# Altium integrated library RF Inductors-BPF_rev15a.intlib: 5 symbols
Pins are listed as number, name and electrical type; pins without a type are passive.

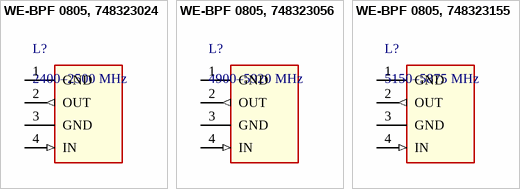
[diagram p0: symbols WE-BPF 0805, 748323024 to WE-BPF 0805, 748323155]

## WE-BPF 0805, 748323024
designator L?, comment 2400–2500 MHz
WE-BPF Multilayer Chip Band-Pass Filter, Frequence=2400–2500 MHz; partNo: 748323024; Manufacturer: Wurth Elektronik; Frequence: 2400–2500 MHz; ComponentLink1Description: Manufacturer; ComponentLink1URL: http://www.we-online.de; Created by: Baojun Chen; Created Date: Nov.2015; ComponentLink2Description: Datasheet; ComponentLink2URL: http://katalog.we-online.de/pbs/datasheet/748323024.pdf
footprint WE-BPF_0805
pins: 1 GND, 2 OUT (out), 3 GND, 4 IN (in)

## WE-BPF 0805, 748323056
designator L?, comment 4900–5920 MHz
WE-BPF Multilayer Chip Band-Pass Filter, Frequence=4900–5920 MHz; partNo: 748323056; Manufacturer: Wurth Elektronik; Frequence: 4900–5920 MHz; ComponentLink1Description: Manufacturer; ComponentLink1URL: http://www.we-online.de; Created by: Baojun Chen; Created Date: Nov.2015; ComponentLink2Description: Datasheet; ComponentLink2URL: http://katalog.we-online.de/pbs/datasheet/748323056.pdf
footprint WE-BPF_0805
pins: 1 GND, 2 OUT (out), 3 GND, 4 IN (in)

## WE-BPF 0805, 748323155
designator L?, comment 5150–5875 MHz
WE-BPF Multilayer Chip Band-Pass Filter, Frequence=5150–5875 MHz; partNo: 748323155; Manufacturer: Wurth Elektronik; Frequence: 5150–5875 MHz; ComponentLink1Description: Manufacturer; ComponentLink1URL: http://www.we-online.de; Created by: Baojun Chen; Created Date: Nov.2015; ComponentLink2Description: Datasheet; ComponentLink2URL: http://katalog.we-online.de/pbs/datasheet/748323155.pdf
footprint WE-BPF_0805
pins: 1 GND, 2 OUT (out), 3 GND, 4 IN (in)


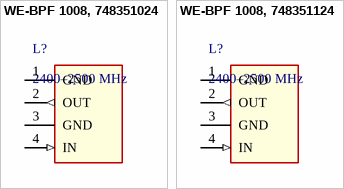
[diagram p1: symbols WE-BPF 1008, 748351024 to WE-BPF 1008, 748351124]

## WE-BPF 1008, 748351024
designator L?, comment 2400–2500 MHz
WE-BPF Multilayer Chip Band-Pass Filter, Frequence=2400–2500 MHz; partNo: 748351024; Manufacturer: Wurth Elektronik; Frequence: 2400–2500 MHz; ComponentLink1Description: Manufacturer; ComponentLink1URL: http://www.we-online.de; Created by: Baojun Chen; Created Date: Nov.2015; ComponentLink2Description: Datasheet; ComponentLink2URL: http://katalog.we-online.de/pbs/datasheet/748323024.pdf
footprint WE-BPF_1008
pins: 1 GND, 2 OUT (out), 3 GND, 4 IN (in)

## WE-BPF 1008, 748351124
designator L?, comment 2400–2500 MHz
WE-BPF Multilayer Chip Band-Pass Filter, Frequence=2400–2500 MHz; partNo: 748351124; Manufacturer: Wurth Elektronik; Frequence: 2400–2500 MHz; ComponentLink1Description: Manufacturer; ComponentLink1URL: http://www.we-online.de; Created by: Baojun Chen; Created Date: Nov.2015; ComponentLink2Description: Datasheet; ComponentLink2URL: http://katalog.we-online.de/pbs/datasheet/748351124.pdf
footprint WE-BPF_1008
pins: 1 GND, 2 OUT (out), 3 GND, 4 IN (in)